# Altium schematic symbol library SKYA21003.SchLib: 1 symbol
Pins are listed as number, name and electrical type; pins without a type are passive.

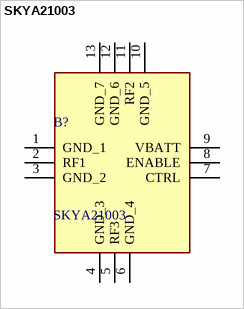
[diagram p0: symbol SKYA21003]

## SKYA21003
designator B?
RF Switch ICs SPDT 1- 6 GHz SOI in a 2x2 QFN SWITCH; Manufacturer_Name: Skyworks; Geometry.Height: 0.65mm; Manufacturer_Part_Number: SKYA21003; Mouser Part Number: 873-SKYA21003; Mouser Price/Stock: https://www.mouser.co.uk/ProductDetail/Skyworks-Solutions-Inc/SKYA21003?qs=4FzvMsMEDjYZsTKpRNiAFA%3D%3D; Arrow Part Number: SKYA21003; Arrow Price/Stock: https://www.arrow.com/en/products/skya21003/skyworks-solutions?utm_currency=USD&region=nac; Datasheet Link: https://www.skyworksinc.com/-/media/SkyWorks/Documents/Products/2201-2300/SKYA21003_202938I.pdf
footprint QFN50P200X200X65-13N-D
pins: 1 GND_1, 2 RF1, 3 GND_2, 4 GND_3, 5 RF3, 6 GND_4, 7 CTRL, 8 ENABLE, 9 VBATT, 10 GND_5, 11 RF2, 12 GND_6, 13 GND_7